# Altium schematic symbol library sounders.SchLib: 12 symbols
Pins are listed as number, name and electrical type; pins without a type are passive.

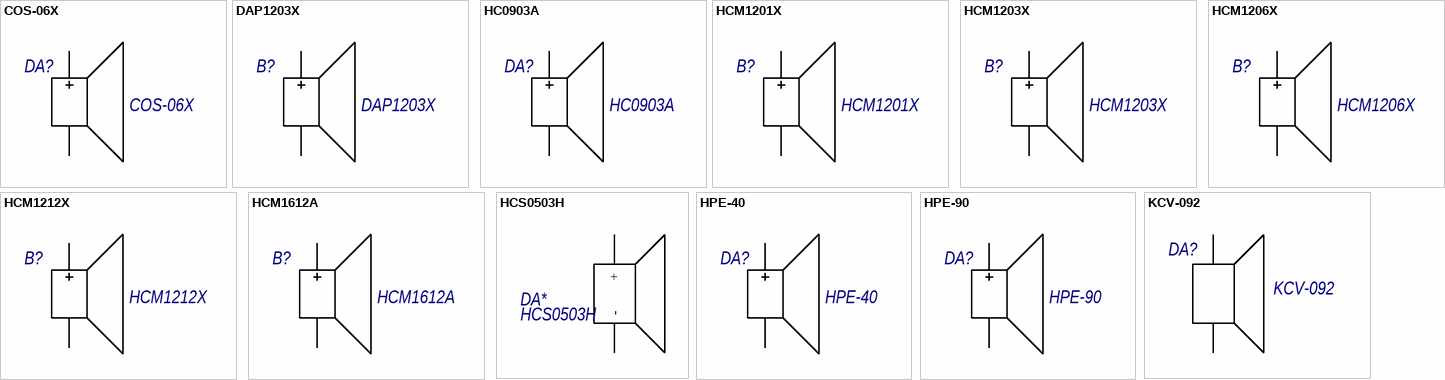
[diagram p0: symbols COS-06X to KCV-092]

## COS-06X
designator DA?
Value: *
footprint COS-06X
pins: 1 A, 2 B

## DAP1203X
designator B?
Value: *
footprint HCM12--X
pins: 1 A, 2 B

## HC0903A
designator DA?
Value: *
footprint HC09A
pins: 1 A, 2 B

## HCM1201X
designator B?
Value: *
footprint HCM12--X
pins: 1 A, 2 B

## HCM1203X
designator B?
Value: *
footprint HCM12--X
pins: 1 A, 2 B

## HCM1206X
designator B?
Value: *
footprint HCM12--X
pins: 1 A, 2 B

## HCM1212X
designator B?
Value: *
footprint HCM12--X
pins: 1 A, 2 B

## HCM1612A
designator B?
Value: *
footprint HCM1612A
pins: 1 A, 2 B

## HCS0503H
designator DA*
Buzzer
footprint HCS0503H
pins: 1 +, 2 -

## HPE-40
designator DA?
Value: *
footprint HPE-40_HPE-40(Primary)
pins: A, B

## HPE-90
designator DA?
Value: *
footprint HPE-90_HPE-90(Primary)
pins: A, B

## KCV-092
designator DA?
Value: *
footprint KCV-092
footprint KCV-092_P
pins: 1 A, 2 B